# Altium footprint library 4116.4-3_offcut.PcbLib: 1 footprints
Each footprint in its own frame and in the unit in brackets; x right, y up, seen from the top. Pads: shape width x height; smd on the part's side, far side on the other; paste and mask are expansions set on the pad; w line width, h text height; cw(c..) or ccw(c..) is an arc to the next point about the centre after c.
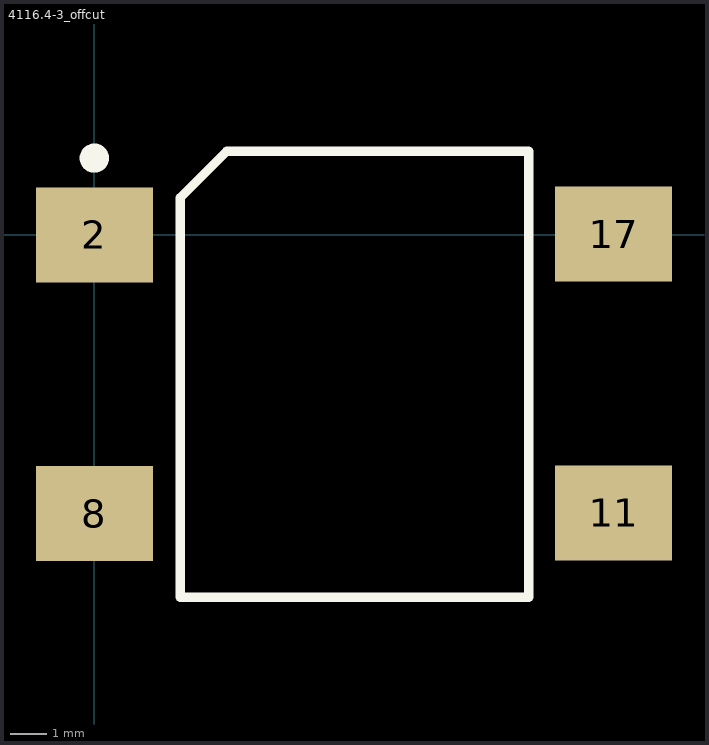
[diagram p0: the footprint, top view; thin cyan lines are the x and y axes]

## 4116.4-3_offcut [mm]
pads (4):
  rect 3.2x2.6 smd: 2(0,0) 8(0,-7.62) 11(14.2,-7.6) 17(14.2,0.02)
Top Overlay:
  circle w0.4: c0,2.1 r0.2
  lines w0.254: 2.351,-9.906 2.351,1.016 3.621,2.286 11.876,2.286 11.876,-9.906 2.351,-9.906
3D body "4116.4-3.STEP": height 3.35, standoff 0, extent -0.15,-9.8 14.35,2.2